# EAGLE library part MMC_READER_BREAKOUT (library Breakout_Divers)
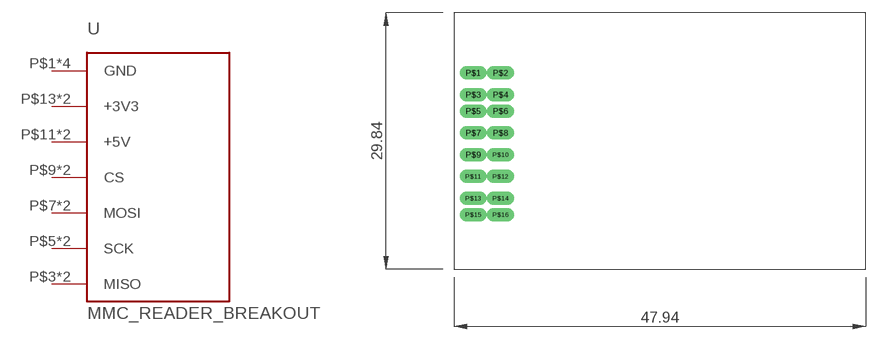
[diagram p0: symbol with the pads of MMC_READER_BREAKOUT; footprint MMC_READER_BREAKOUT]

Designator prefix -

## MMC_READER_BREAKOUT  [MMC_READER_BREAKOUT]
P$1  GND  pwr
P$2  GND  pwr
P$3  MISO
P$4  MISO
P$5  SCK  in
P$6  SCK  in
P$7  MOSI
P$8  MOSI
P$9  CS
P$10  CS
P$11  +5V  pwr
P$12  +5V  pwr
P$13  +3V3  pwr
P$14  +3V3  pwr
P$15  GND  pwr
P$16  GND  pwr

## Footprint MMC_READER_BREAKOUT (pad centres in mm)
drill 0.813 pad 1.575 long: P$1 -20.32,10.16; P$2 -17.145,10.16; P$3 -20.32,7.62; P$4 -17.145,7.62; P$5 -20.32,5.715; P$6 -17.145,5.715; P$7 -20.32,3.175; P$8 -17.145,3.175; P$9 -20.32,0.635; P$10 -17.145,0.635; P$11 -20.32,-1.905; P$12 -17.145,-1.905; P$13 -20.32,-4.445; P$14 -17.145,-4.445; P$15 -20.32,-6.35; P$16 -17.145,-6.35